# EAGLE library part JTAG-20 (library CEDTv60)
JTAG 20-Pin Programming/Debug Connector
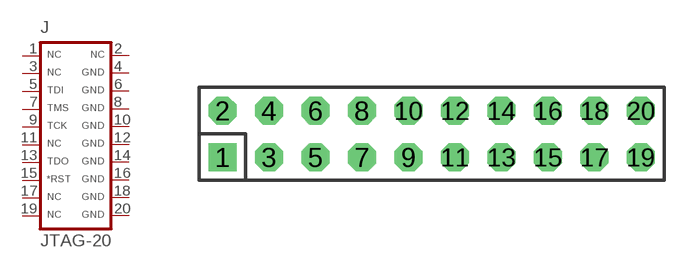
[diagram p46: symbol with the pads of JTAG-20; footprint JTAG-20]

Designator prefix J

## JTAG-20  [JTAG-20]
1  VREF  pas
2  VTAR  pas
3  NTRST  pas
4  GND  pas
5  TDI  pas
6  GND  pas
7  TMS  pas
8  GND  pas
9  TCK  pas
10  GND  pas
11  RTCK  pas
12  GND  pas
13  TDO  pas
14  GND  pas
15  RST  pas
16  GND  pas
17  OBGRQ  pas
18  GND  pas
19  OBGACK  pas
20  GND  pas

## Footprint JTAG-20 (pad centres in mm)
JTAG - 20 PIN CONNECTOR
drill 1.016 square: 1 -11.43,-1.27
drill 1.016 octagon: 2 -11.43,1.27; 3 -8.89,-1.27; 4 -8.89,1.27; 5 -6.35,-1.27; 6 -6.35,1.27; 7 -3.81,-1.27; 8 -3.81,1.27; 9 -1.27,-1.27; 10 -1.27,1.27; 11 1.27,-1.27; 12 1.27,1.27; 13 3.81,-1.27; 14 3.81,1.27; 15 6.35,-1.27; 16 6.35,1.27; 17 8.89,-1.27; 18 8.89,1.27; 19 11.43,-1.27; 20 11.43,1.27